# Altium footprint library 34DIP.PcbLib: 1 footprints
Each footprint in its own frame and in the unit in brackets; x right, y up, seen from the top. Pads: shape width x height; smd on the part's side, far side on the other; paste and mask are expansions set on the pad; w line width, h text height; cw(c..) or ccw(c..) is an arc to the next point about the centre after c.
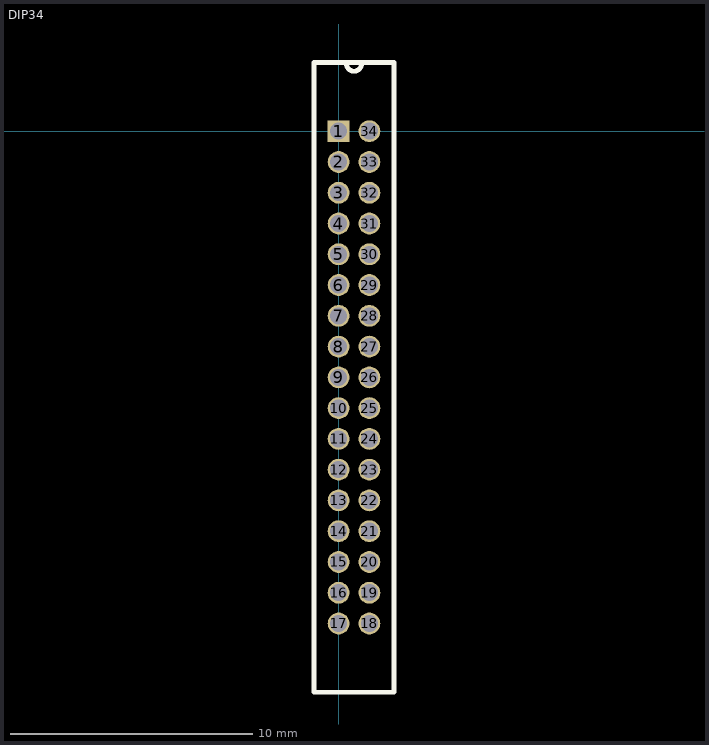
[diagram p0: the footprint, top view; thin cyan lines are the x and y axes]

## DIP34 [mm]
pads (34):
  rect 0.9x0.9 hole 0.7: 1(0,0)
  round 0.9 hole 0.7: 2(0,-1.27) 3(0,-2.54) 4(0,-3.81) 5(0,-5.08) 6(0,-6.35) 7(0,-7.62) 8(0,-8.89) 9(0,-10.16) 10(0,-11.43) 11(0,-12.7) 12(0,-13.97) 13(0,-15.24) 14(0,-16.51) 15(0,-17.78) 16(0,-19.05) 17(0,-20.32) 18(1.27,-20.32) 19(1.27,-19.05) 20(1.27,-17.78) 21(1.27,-16.51) 22(1.27,-15.24) 23(1.27,-13.97) 24(1.27,-12.7) 25(1.27,-11.43) 26(1.27,-10.16) 27(1.27,-8.89) 28(1.27,-7.62) 29(1.27,-6.35) 30(1.27,-5.08) 31(1.27,-3.81) 32(1.27,-2.54) 33(1.27,-1.27) 34(1.27,0)
Top Overlay:
  lines w0.2: 0.318,2.794 ccw(c0.635,2.794) 0.953,2.794 ; 0.318,2.835 2.285,2.835 2.285,-23.155 -1.015,-23.155 -1.015,2.835 0.953,2.835